# Altium schematic symbol library general.SchLib: 62 symbols
Pins are listed as number, name and electrical type; pins without a type are passive.

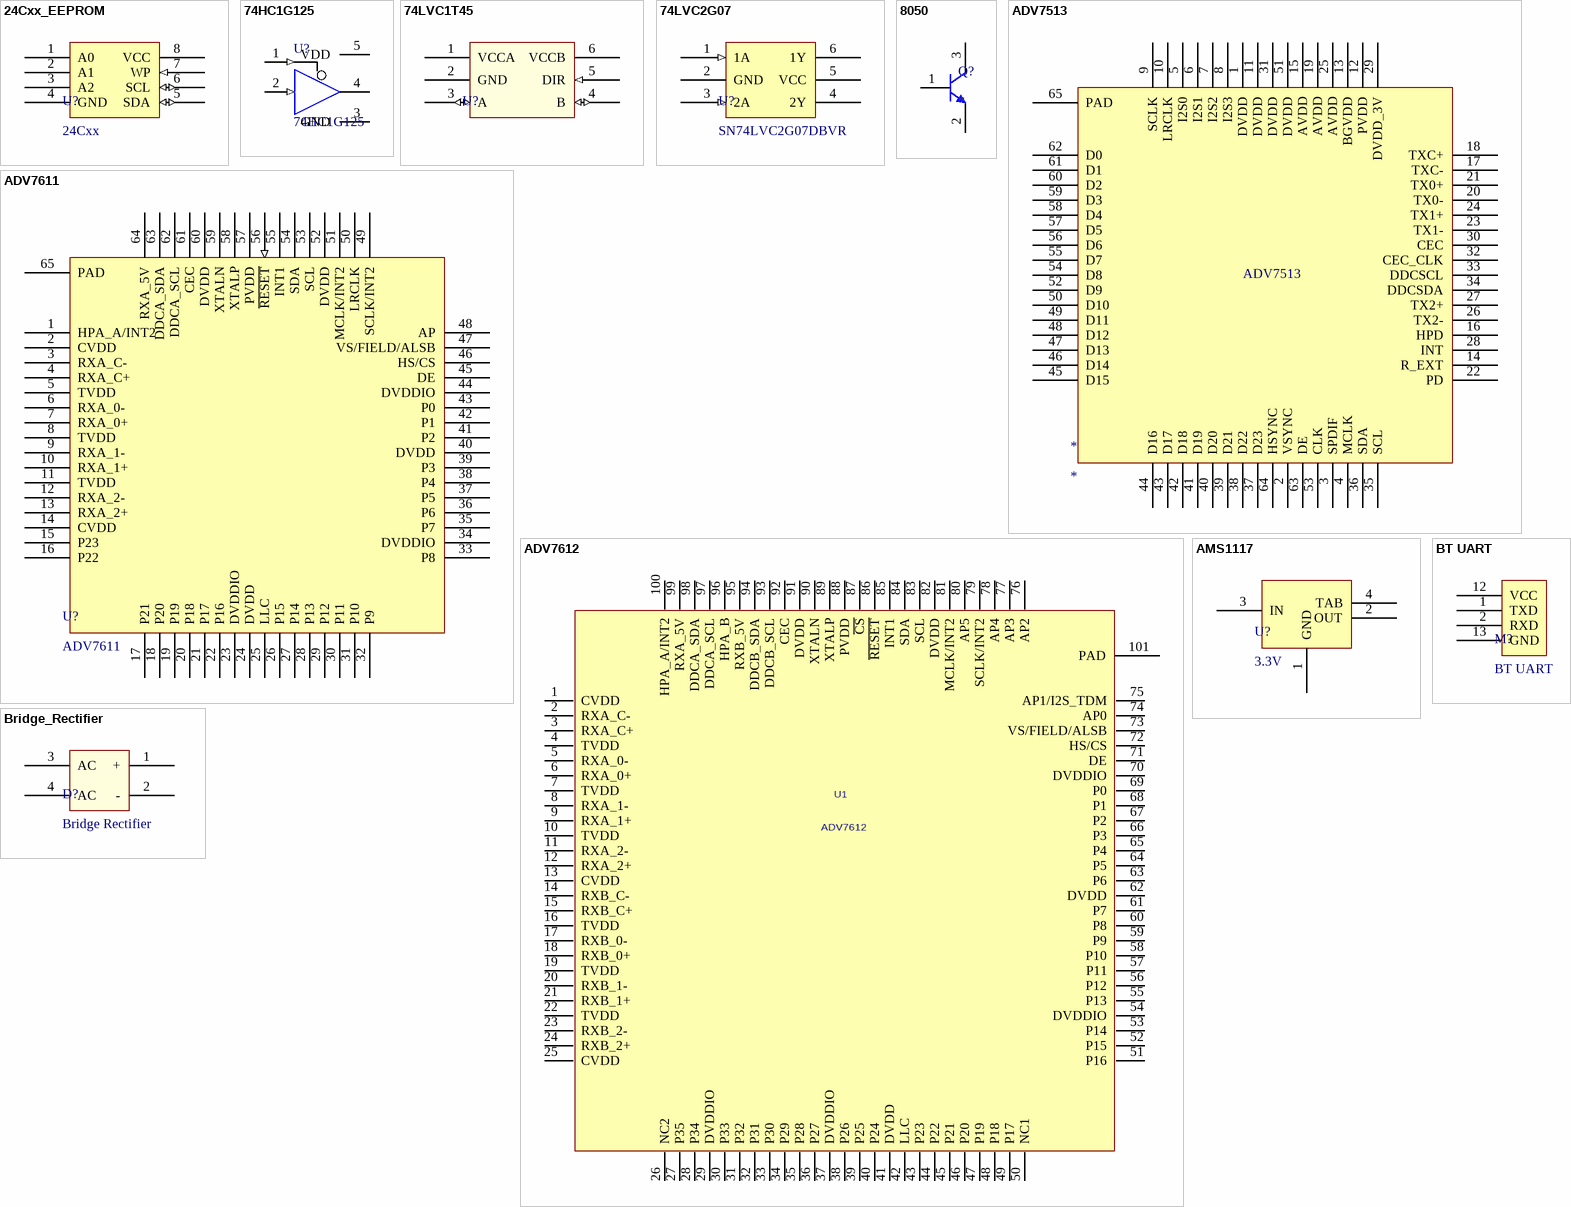
[diagram p0: symbols 24Cxx_EEPROM to BT UART]

## 24Cxx_EEPROM
designator U?, comment 24Cxx
footprint SOP8-3D (Small Outline; 8 Leads; Body Width 4.3 mm; Pitch 1.27 mm)
pins: 1 A0, 2 A1, 3 A2, 4 GND (power), 5 SDA (io), 6 SCL (io), 7 WP (in), 8 VCC (power)

## 74HC1G125
designator U?
Non-Inverting 3-State Buffer; Published: 15-Apr-2002; LatestRevisionDate: 12-Dec-2006; LatestRevisionNote: IPC-7351 Footprint Added.; DatasheetVersion: Feb-2000; PackageVersion: Oct-1999; PackageReference: 419A-01; Publisher: Altium Limited; PackageDescription: 5-Pin SOT-353 Package 0.65 mm Pitch, 2.1 mm Lead Span; ComponentLink1Description: Manufacturer Link; ComponentLink1URL: http://www.onsemi.com/; ComponentLink2Description: Datasheet; ComponentLink2URL: http://www.onsemi.com/pub/Collateral/MC74VHC1G125-D.PDF
footprint SOT23-5
footprint 419A-01_L (SOT353, 5-Leads, Body 2x1.3mm, Pitch 0.65mm, Lead Span 2.1mm, IPC High Density)
footprint 419A-01_M (SOT353, 5-Leads, Body 2x1.3mm, Pitch 0.65mm, Lead Span 2.1mm, IPC Low Density)
pins: 1 ~{OE} (in), 2 A (in), 3 GND (power), 4 Y (hiz), 5 VDD (power)

## 74LVC1T45
designator U?
footprint SOT23-6
pins: 1 VCCA (power), 2 GND (power), 3 A (io), 4 B (io), 5 DIR (in), 6 VCCB (power)

## 74LVC2G07
designator U?, comment SN74LVC2G07DBVR
footprint SOT23-6
pins: 1 1A (in), 2 GND (power), 3 2A (in), 4 2Y (oc), 5 VCC (power), 6 1Y (oc)

## 8050
designator Q?
footprint SOT23B (SOT-23; 3 Leads; Body 3.0 x 2.6 mm, inc. leads (LxW max))
pins: 1 B, 2 E, 3 C

## ADV7513
designator *
pins: 1 DVDD, 2 VSYNC, 3 SPDIF, 4 MCLK, 5 I2S0, 6 I2S1, 7 I2S2, 8 I2S3, 9 SCLK, 10 LRCLK, 11 DVDD, 12 PVDD, 13 BGVDD, 14 R_EXT, 15 AVDD, 16 HPD, 17 TXC-, 18 TXC+, 19 AVDD, 20 TX0-, 21 TX0+, 22 PD, 23 TX1-, 24 TX1+, 25 AVDD, 26 TX2-, 27 TX2+, 28 INT, 29 DVDD_3V, 30 CEC, 31 DVDD, 32 CEC_CLK, 33 DDCSCL, 34 DDCSDA, 35 SCL, 36 SDA, 37 D23, 38 D22, 39 D21, 40 D20, 41 D19, 42 D18, 43 D17, 44 D16, 45 D15, 46 D14, 47 D13, 48 D12, 49 D11, 50 D10, 51 DVDD, 52 D9, 53 CLK, 54 D8, 55 D7, 56 D6, 57 D5, 58 D4, 59 D3, 60 D2, 61 D1, 62 D0, 63 DE, 64 HSYNC, 65 PAD

## ADV7611
designator U?
footprint ADV7611
pins: 1 HPA_A/INT2, 2 CVDD, 3 RXA_C-, 4 RXA_C+, 5 TVDD, 6 RXA_0-, 7 RXA_0+, 8 TVDD, 9 RXA_1-, 10 RXA_1+, 11 TVDD, 12 RXA_2-, 13 RXA_2+, 14 CVDD, 15 P23, 16 P22, 17 P21, 18 P20, 19 P19, 20 P18, 21 P17, 22 P16, 23 DVDDIO, 24 DVDD, 25 LLC, 26 P15, 27 P14, 28 P13, 29 P12, 30 P11, 31 P10, 32 P9, 33 P8, 34 DVDDIO, 35 P7, 36 P6, 37 P5, 38 P4, 39 P3, 40 DVDD, 41 P2, 42 P1, 43 P0, 44 DVDDIO, 45 DE, 46 HS/CS, 47 VS/FIELD/ALSB, 48 AP, 49 SCLK/INT2, 50 LRCLK, 51 MCLK/INT2, 52 DVDD, 53 SCL, 54 SDA, 55 INT1, 56 ~{RESET} (in), 57 PVDD, 58 XTALP, 59 XTALN, 60 DVDD, 61 CEC, 62 DDCA_SCL, 63 DDCA_SDA, 64 RXA_5V, 65 PAD (power)

## ADV7612
designator U1
Manufacturer: ANALOG DEVICES; Manufacturers P/N: TBA; PCB DECAL: ADV7612-CLAMP; SIGPIN101: GND; Part Desc: ADV7612; Stock Code: ADI Free Issue
footprint ADV7612-CLAMP
pins: 1 CVDD, 2 RXA_C-, 3 RXA_C+, 4 TVDD, 5 RXA_0-, 6 RXA_0+, 7 TVDD, 8 RXA_1-, 9 RXA_1+, 10 TVDD, 11 RXA_2-, 12 RXA_2+, 13 CVDD, 14 RXB_C-, 15 RXB_C+, 16 TVDD, 17 RXB_0-, 18 RXB_0+, 19 TVDD, 20 RXB_1-, 21 RXB_1+, 22 TVDD, 23 RXB_2-, 24 RXB_2+, 25 CVDD, 26 NC2, 27 P35, 28 P34, 29 DVDDIO, 30 P33, 31 P32, 32 P31, 33 P30, 34 P29, 35 P28, 36 P27, 37 DVDDIO, 38 P26, 39 P25, 40 P24, 41 DVDD, 42 LLC, 43 P23, 44 P22, 45 P21, 46 P20, 47 P19, 48 P18, 49 P17, 50 NC1, 51 P16, 52 P15, 53 P14, 54 DVDDIO, 55 P13, 56 P12, 57 P11, 58 P10, 59 P9, 60 P8, 61 P7, 62 DVDD, 63 P6, 64 P5, 65 P4, 66 P3, 67 P2, 68 P1, 69 P0, 70 DVDDIO, 71 DE, 72 HS/CS, 73 VS/FIELD/ALSB, 74 AP0, 75 AP1/I2S_TDM, 76 AP2, 77 AP3, 78 AP4, 79 SCLK/INT2, 80 AP5, 81 MCLK/INT2, 82 DVDD, 83 SCL, 84 SDA, 85 INT1, 86 ~{RESET}, 87 ~{CS}, 88 PVDD, 89 XTALP, 90 XTALN, 91 DVDD, 92 CEC, 93 DDCB_SCL, 94 DDCB_SDA, 95 RXB_5V, 96 HPA_B, 97 DDCA_SCL, 98 DDCA_SDA, 99 RXA_5V, 100 HPA_A/INT2, 101 PAD

## AMS1117
designator U?, comment 3.3V
footprint SOT223-3D (SOT-223/SC-73; 4 Leads; Body 6.7 x 7.3 mm, inc. leads (LxW max))
pins: 1 GND, 2 OUT, 3 IN, 4 TAB

## Bridge_Rectifier
designator D?, comment Bridge Rectifier
footprint DB151S (SOP, 4-Leads, Body 8.30x6.35mm, Pitch 5.10mm, IPC Medium Density)
pins: 1 +, 2 -, 3 AC, 4 AC

## BT UART
designator M?
pins: 1 TXD, 2 RXD, 12 VCC (power), 13 GND

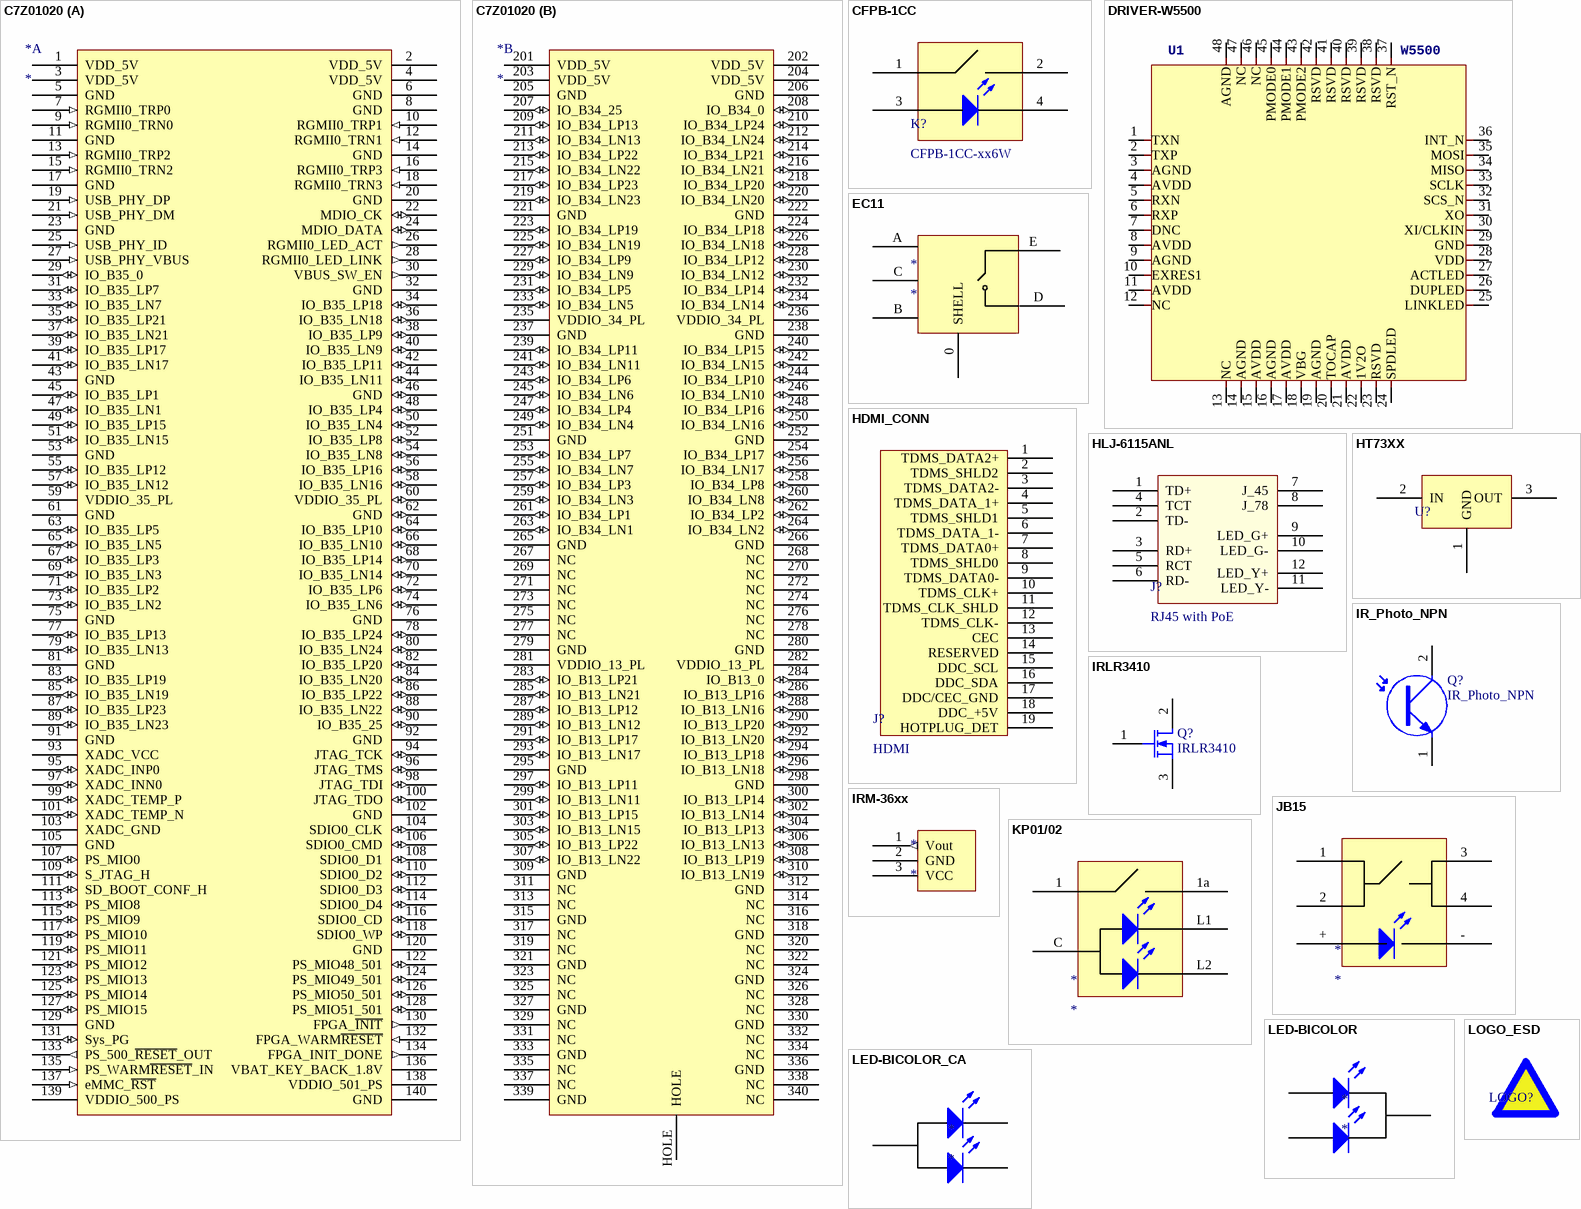
[diagram p1: symbols C7Z01020 to LOGO_ESD]

## C7Z01020
designator *
footprint C7Z01020
part A pins: 1 VDD_5V (power), 2 VDD_5V (power), 3 VDD_5V (power), 4 VDD_5V (power), 5 GND (power), 6 GND (power), 7 RGMII0_TRP0 (in), 8 GND (power), 9 RGMII0_TRN0 (in), 10 RGMII0_TRP1 (in), 11 GND (power), 12 RGMII0_TRN1 (in), 13 RGMII0_TRP2 (in), 14 GND (power), 15 RGMII0_TRN2 (in), 16 RGMII0_TRP3 (in), 17 GND (power), 18 RGMII0_TRN3 (in), 19 USB_PHY_DP (in), 20 GND (power), 21 USB_PHY_DM (in), 22 MDIO_CK (io), 23 GND (power), 24 MDIO_DATA (io), 25 USB_PHY_ID (in), 26 RGMII0_LED_ACT (out), 27 USB_PHY_VBUS (in), 28 RGMII0_LED_LINK (out), 29 IO_B35_0 (io), 30 VBUS_SW_EN (out), 31 IO_B35_LP7 (io), 32 GND (power), 33 IO_B35_LN7 (io), 34 IO_B35_LP18 (io), 35 IO_B35_LP21 (io), 36 IO_B35_LN18 (io), 37 IO_B35_LN21 (io), 38 IO_B35_LP9 (io), 39 IO_B35_LP17 (io), 40 IO_B35_LN9 (io), 41 IO_B35_LN17 (io), 42 IO_B35_LP11 (io), 43 GND (power), 44 IO_B35_LN11 (io), 45 IO_B35_LP1 (io), 46 GND (io), 47 IO_B35_LN1 (io), 48 IO_B35_LP4 (io), 49 IO_B35_LP15 (io), 50 IO_B35_LN4 (io), 51 IO_B35_LN15 (io), 52 IO_B35_LP8 (io), 53 GND (power), 54 IO_B35_LN8 (io), 55 IO_B35_LP12 (io), 56 IO_B35_LP16 (io), 57 IO_B35_LN12 (io), 58 IO_B35_LN16 (io), 59 VDDIO_35_PL (power), 60 VDDIO_35_PL (io), 61 GND (power), 62 GND (io), 63 IO_B35_LP5 (io), 64 IO_B35_LP10 (io), 65 IO_B35_LN5 (io), 66 IO_B35_LN10 (io), 67 IO_B35_LP3 (io), 68 IO_B35_LP14 (io), 69 IO_B35_LN3 (io), 70 IO_B35_LN14 (io), 71 IO_B35_LP2 (io), 72 IO_B35_LP6 (io), 73 IO_B35_LN2 (io), 74 IO_B35_LN6 (io), 75 GND (power), 76 GND (power), 77 IO_B35_LP13 (io), 78 IO_B35_LP24 (io), 79 IO_B35_LN13 (io), 80 IO_B35_LN24 (io), 81 GND (power), 82 IO_B35_LP20 (io), 83 IO_B35_LP19 (io), 84 IO_B35_LN20 (io), 85 IO_B35_LN19 (io), 86 IO_B35_LP22 (io), 87 IO_B35_LP23 (io), 88 IO_B35_LN22 (io), 89 IO_B35_LN23 (io), 90 IO_B35_25 (io), 91 GND (power), 92 GND (power), 93 XADC_VCC (power), 94 JTAG_TCK (io), 95 XADC_INP0 (io), 96 JTAG_TMS (io), 97 XADC_INN0 (io), 98 JTAG_TDI (io), 99 XADC_TEMP_P (io), 100 JTAG_TDO (io), 101 XADC_TEMP_N (io), 102 GND (power), 103 XADC_GND (power), 104 SDIO0_CLK (io), 105 GND (power), 106 SDIO0_CMD (io), 107 PS_MIO0 (io), 108 SDIO0_D1 (io), 109 S_JTAG_H (io), 110 SDIO0_D2 (io), 111 SD_BOOT_CONF_H (io), 112 SDIO0_D3 (io), 113 PS_MIO8 (io), 114 SDIO0_D4 (io), 115 PS_MIO9 (io), 116 SDIO0_CD (io), 117 PS_MIO10 (io), 118 SDIO0_WP (io), 119 PS_MIO11 (io), 120 GND (power), 121 PS_MIO12 (io), 122 PS_MIO48_501 (io), 123 PS_MIO13 (io), 124 PS_MIO49_501 (io), 125 PS_MIO14 (io), 126 PS_MIO50_501 (io), 127 PS_MIO15 (io), 128 PS_MIO51_501 (io), 129 GND (power), 130 FPGA_~{INIT} (out), 131 Sys_PG (io), 132 FPGA_WARM~{RESET} (in), 133 PS_500_~{RESET}_OUT (out), 134 FPGA_INIT_DONE (out), 135 PS_WARM~{RESET}_IN (in), 136 VBAT_KEY_BACK_1.8V (power), 137 eMMC_~{RST} (in), 138 VDDIO_501_PS (power), 139 VDDIO_500_PS (power), 140 GND (power)
part B pins: 201 VDD_5V (power), 202 VDD_5V (power), 203 VDD_5V (power), 204 VDD_5V (power), 205 GND (power), 206 GND (power), 207 IO_B34_25 (io), 208 IO_B34_0 (io), 209 IO_B34_LP13 (io), 210 IO_B34_LP24 (io), 211 IO_B34_LN13 (io), 212 IO_B34_LN24 (io), 213 IO_B34_LP22 (io), 214 IO_B34_LP21 (io), 215 IO_B34_LN22 (io), 216 IO_B34_LN21 (io), 217 IO_B34_LP23 (io), 218 IO_B34_LP20 (io), 219 IO_B34_LN23 (io), 220 IO_B34_LN20 (io), 221 GND (power), 222 GND (power), 223 IO_B34_LP19 (io), 224 IO_B34_LP18 (io), 225 IO_B34_LN19 (io), 226 IO_B34_LN18 (io), 227 IO_B34_LP9 (io), 228 IO_B34_LP12 (io), 229 IO_B34_LN9 (io), 230 IO_B34_LN12 (io), 231 IO_B34_LP5 (io), 232 IO_B34_LP14 (io), 233 IO_B34_LN5 (io), 234 IO_B34_LN14 (io), 235 VDDIO_34_PL (power), 236 VDDIO_34_PL (power), 237 GND (power), 238 GND (power), 239 IO_B34_LP11 (io), 240 IO_B34_LP15 (io), 241 IO_B34_LN11 (io), 242 IO_B34_LN15 (io), 243 IO_B34_LP6 (io), 244 IO_B34_LP10 (io), 245 IO_B34_LN6 (io), 246 IO_B34_LN10 (io), 247 IO_B34_LP4 (io), 248 IO_B34_LP16 (io), 249 IO_B34_LN4 (io), 250 IO_B34_LN16 (io), 251 GND (power), 252 GND (power), 253 IO_B34_LP7 (io), 254 IO_B34_LP17 (io), 255 IO_B34_LN7 (io), 256 IO_B34_LN17 (io), 257 IO_B34_LP3 (io), 258 IO_B34_LP8 (io), 259 IO_B34_LN3 (io), 260 IO_B34_LN8 (io), 261 IO_B34_LP1 (io), 262 IO_B34_LP2 (io), 263 IO_B34_LN1 (io), 264 IO_B34_LN2 (io), 265 GND (power), 266 GND (power), 267 NC (power), 268 NC (power), 269 NC (power), 270 NC (power), 271 NC (power), 272 NC (power), 273 NC (power), 274 NC (power), 275 NC (power), 276 NC (power), 277 NC (power), 278 NC (power), 279 GND (power), 280 GND (power), 281 VDDIO_13_PL (power), 282 VDDIO_13_PL (power), 283 IO_B13_LP21 (io), 284 IO_B13_0 (io), 285 IO_B13_LN21 (io), 286 IO_B13_LP16 (io), 287 IO_B13_LP12 (io), 288 IO_B13_LN16 (io), 289 IO_B13_LN12 (io), 290 IO_B13_LP20 (io), 291 IO_B13_LP17 (io), 292 IO_B13_LN20 (io), 293 IO_B13_LN17 (io), 294 IO_B13_LP18 (io), 295 GND (power), 296 IO_B13_LN18 (io), 297 IO_B13_LP11 (io), 298 GND (power), 299 IO_B13_LN11 (io), 300 IO_B13_LP14 (io), 301 IO_B13_LP15 (io), 302 IO_B13_LN14 (io), 303 IO_B13_LN15 (io), 304 IO_B13_LP13 (io), 305 IO_B13_LP22 (io), 306 IO_B13_LN13 (io), 307 IO_B13_LN22 (io), 308 IO_B13_LP19 (io), 309 GND (power), 310 IO_B13_LN19 (io), 311 NC (power), 312 GND (power), 313 NC (power), 314 NC (power), 315 GND (power), 316 NC (power), 317 NC (power), 318 GND (power), 319 NC (power), 320 NC (power), 321 GND (power), 322 NC (power), 323 NC (power), 324 GND (power), 325 NC (power), 326 NC (power), 327 GND (power), 328 NC (power), 329 NC (power), 330 GND (power), 331 NC (power), 332 NC (power), 333 GND (power), 334 NC (power), 335 NC (power), 336 GND (power), 337 NC (power), 338 NC (power), 339 GND (power), 340 NC (power), HOLE (power)

## CFPB-1CC
designator K?, comment CFPB-1CC-xx6W
footprint CFPB-1CC-xx6W
pins: 1, 2, 3, 4

## DRIVER-W5500
designator U1, comment W5500
footprint TQFP48_N (48-Pin Thin Quad Flat Pack 0.5 mm Pitch, IPC Medium Density)
pins: 1 TXN, 2 TXP, 3 AGND, 4 AVDD, 5 RXN, 6 RXP, 7 DNC, 8 AVDD, 9 AGND, 10 EXRES1, 11 AVDD, 12 NC, 13 NC, 14 AGND, 15 AVDD, 16 AGND, 17 AVDD, 18 VBG, 19 AGND, 20 TOCAP, 21 AVDD, 22 1V2O, 23 RSVD, 24 SPDLED, 25 LINKLED, 26 DUPLED, 27 ACTLED, 28 VDD, 29 GND, 30 XI/CLKIN, 31 XO, 32 SCS_N, 33 SCLK, 34 MISO, 35 MOSI, 36 INT_N, 37 RST_N, 38 RSVD, 39 RSVD, 40 RSVD, 41 RSVD, 42 RSVD, 43 PMODE2, 44 PMODE1, 45 PMODE0, 46 NC, 47 NC, 48 AGND

## EC11
designator *
footprint EC11
pins: 0 SHELL, A, B, C, D, E 25

## HDMI_CONN
designator J?, comment HDMI
footprint HDMI-CON
pins: 1 TDMS_DATA2+, 2 TDMS_SHLD2, 3 TDMS_DATA2-, 4 TDMS_DATA_1+, 5 TDMS_SHLD1, 6 TDMS_DATA_1-, 7 TDMS_DATA0+, 8 TDMS_SHLD0, 9 TDMS_DATA0-, 10 TDMS_CLK+, 11 TDMS_CLK_SHLD, 12 TDMS_CLK-, 13 CEC, 14 RESERVED, 15 DDC_SCL, 16 DDC_SDA, 17 DDC/CEC_GND, 18 DDC_+5V, 19 HOTPLUG_DET

## HLJ-6115ANL
designator J?, comment RJ45 with PoE
footprint HR911105A
pins: 1 TD+, 2 TD-, 3 RD+, 4 TCT, 5 RCT, 6 RD-, 7 J_45, 8 J_78, 9 LED_G+, 10 LED_G-, 11 LED_Y-, 12 LED_Y+

## HT73XX
designator U?
Low Power Consumption LDO
footprint SOT89 (SOT89, 3-Leads, Body 4,5x2,4mm (max), Pitch 1,50mm, Lead Span 4,1mm, IPC Medium Density)
pins: 1 GND, 2 IN, 3 OUT

## IR_Photo_NPN
designator Q?
NPN Phototransistor; Published: 24-Mar-1999; LatestRevisionDate: 17-Jul-2002; LatestRevisionNote: Re-released for DXP Platform.; PackageReference: TO-220_A; Publisher: Altium Limited; Code_JEDEC: TO-220-AC
footprint PHOTO_NPN
pins: 1 E, 2 C

## IRLR3410
designator Q?
TO-252 N-Channel MOSFET; Published: 8-Jun-2000; LatestRevisionDate: 17-Jul-2002; LatestRevisionNote: Re-released for DXP Platform.; PackageVersion: 1995/1996; PackageReference: E3; Publisher: Altium Limited
simulation model NMOS (MOSFET-N)
footprint TO-252 (D-PAK, 3-Pads, Body 6.20x6.71mm (max), IPC Medium Density)
pins: 1 G, 2 D, 3 S

## IRM-36xx
designator *
footprint IRM-36xx
pins: 1 Vout (out), 2 GND (power), 3 VCC (power)

## JB15
designator *
footprint JB15
pins: 1, 2, 3, 4, +, -

## KP01/02
designator *
footprint KP01/02
pins: 1, 1a, C, L1, L2

## LED-BICOLOR
designator *
footprint LED-BICOLOR
pins: 1, 2, 3

## LED-BICOLOR_CA
designator *
footprint LED-BICOLOR
pins: 1, 2, 3

## LOGO_ESD
designator LOGO?  (value not drawn)
footprint LOGO_WARING1

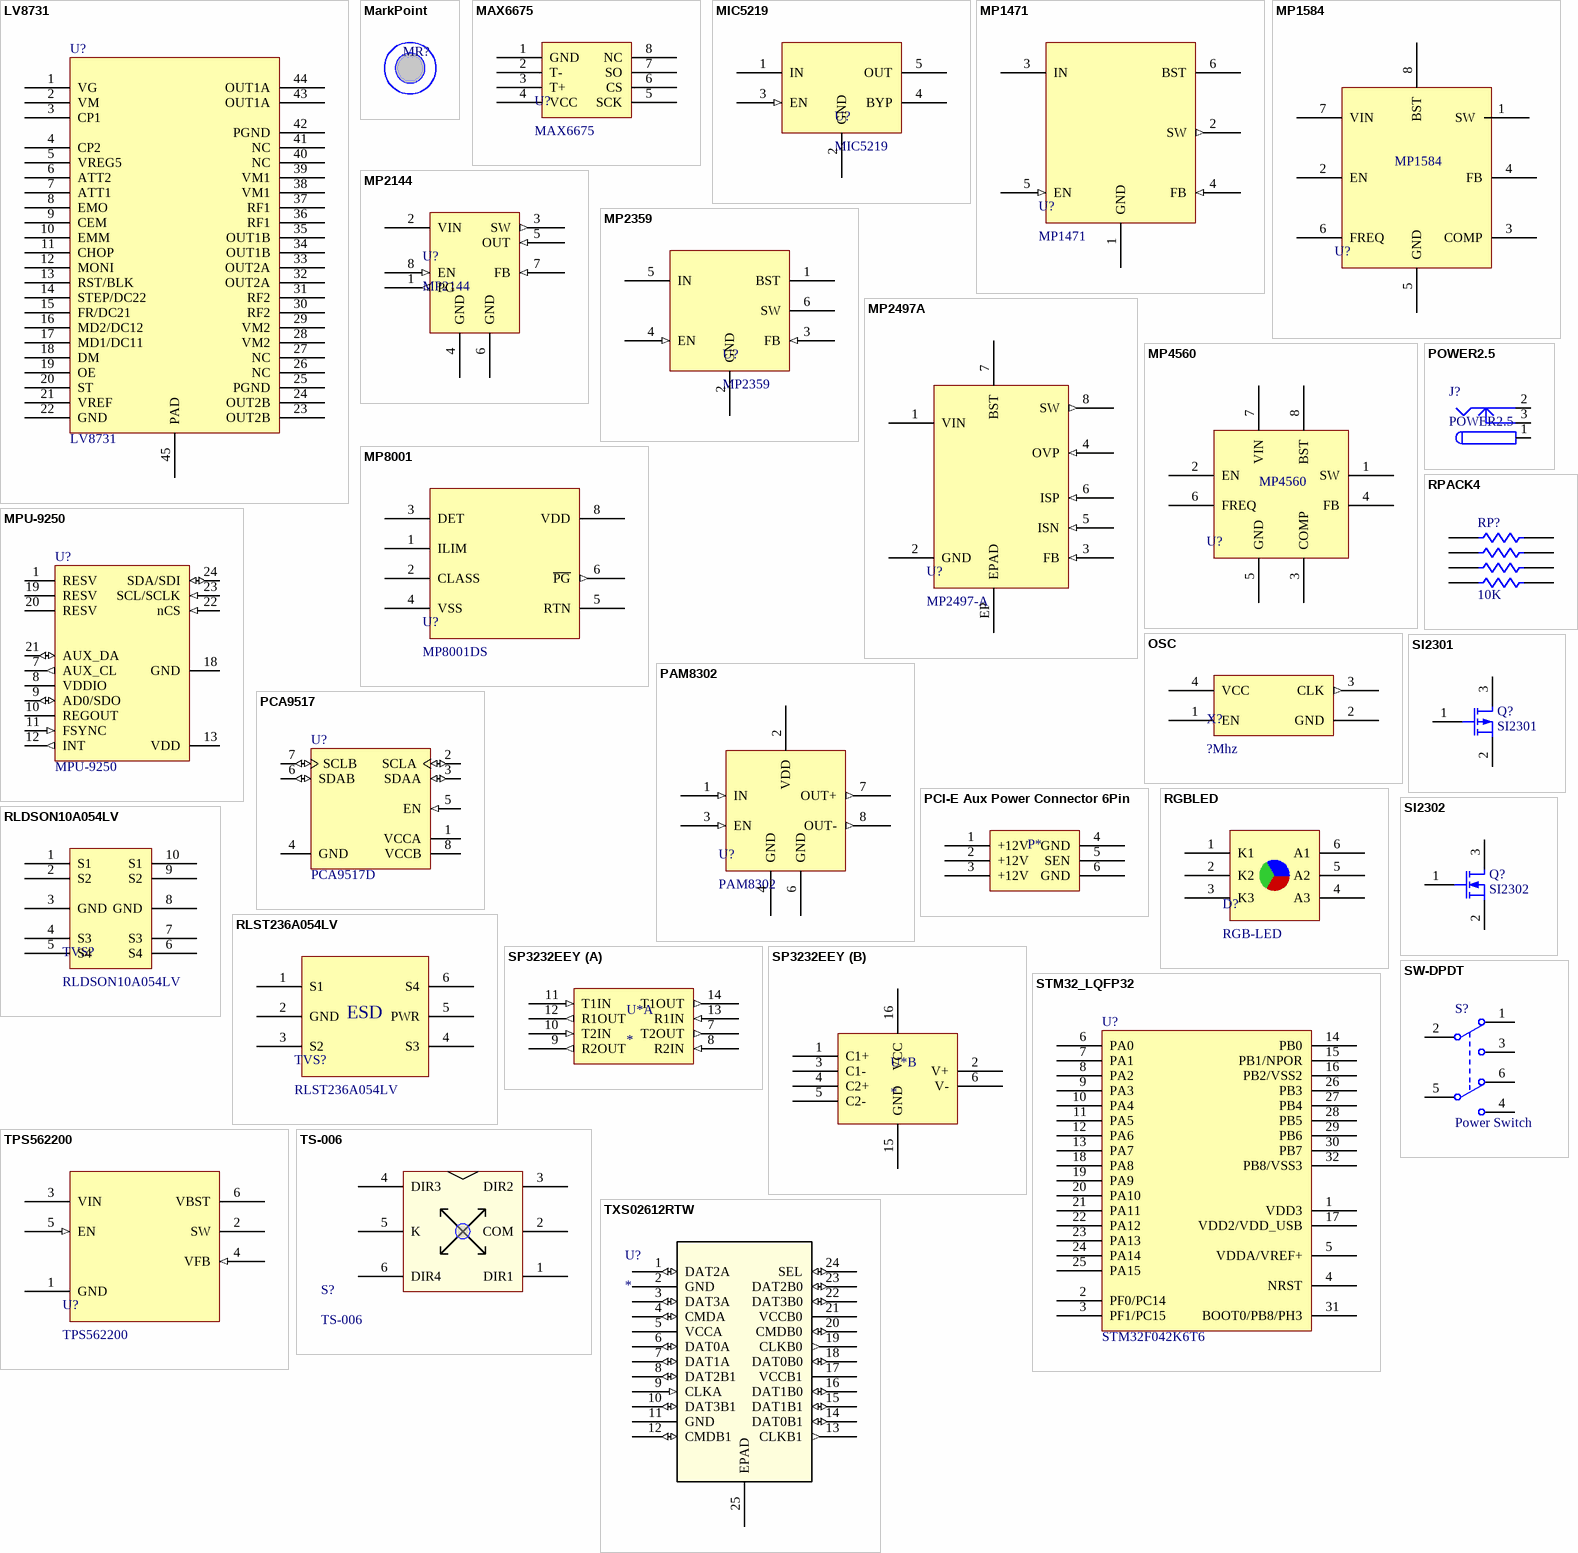
[diagram p2: symbols LV8731 to TXS02612RTW]

## LV8731
designator U?
footprint SSOP44K (SOP, 44-Leads, Body 15.0x5.6mm (max), Pitch 0.65mm, IPC Low Density)
pins: 1 VG, 2 VM, 3 CP1, 4 CP2, 5 VREG5, 6 ATT2, 7 ATT1, 8 EMO, 9 CEM, 10 EMM, 11 CHOP, 12 MONI, 13 RST/BLK, 14 STEP/DC22, 15 FR/DC21, 16 MD2/DC12, 17 MD1/DC11, 18 DM, 19 OE, 20 ST, 21 VREF, 22 GND, 23 OUT2B, 24 OUT2B, 25 PGND, 26 NC, 27 NC, 28 VM2, 29 VM2, 30 RF2, 31 RF2, 32 OUT2A, 33 OUT2A, 34 OUT1B, 35 OUT1B, 36 RF1, 37 RF1, 38 VM1, 39 VM1, 40 NC, 41 NC, 42 PGND, 43 OUT1A, 44 OUT1A, 45 PAD

## MarkPoint
designator MR?  (value not drawn)
footprint MarkPoint

## MAX6675
designator U?
footprint SO8 (Small Outline; 8 Leads; Body Width 3.9 mm; Pitch 1.27 mm)
pins: 1 GND, 2 T-, 3 T+, 4 VCC, 5 SCK, 6 CS, 7 SO, 8 NC

## MIC5219
designator U?
500mA-Peak Output LDO Regulator
footprint SOT23-5
pins: 1 IN (power), 2 GND, 3 EN (in), 4 BYP, 5 OUT

## MP1471
designator U?
3A Peak,  16V, 500kHz Synchronous,  Step-Down Converter In a 6-Pin TSOT 23
footprint SOT23-6
pins: 1 GND (power), 2 SW (out), 3 IN (power), 4 FB (in), 5 EN (in), 6 BST

## MP1584
designator U?  (value not drawn)
footprint MP1584 (SOIC, 8-Leads, Body 4.9x3.9mm (max), Pitch 1.27mm, IPC Medium Density)
pins: 1 SW, 2 EN, 3 COMP, 4 FB, 5 GND, 6 FREQ, 7 VIN, 8 BST

## MP2144
designator U?
2A, 5.5V, 1.2MHz, 40μA IQ, COT Synchronous Step Down Switcher
pins: 1 PG (out), 2 VIN (power), 3 SW (out), 4 GND (power), 5 OUT (in), 6 GND (power), 7 FB (in), 8 EN (in)

## MP2359
designator U?
1.2A, 24V, 1.4MHz  Step-Down Converter
footprint SOT23-6
pins: 1 BST, 2 GND, 3 FB (in), 4 EN (in), 5 IN (power), 6 SW (power)

## MP2497A
designator U?, comment MP2497-A
3A, 50V, 100kHz Step-Down Converter
footprint SOP8-EP (SOIC, 8-Leads, Body 4.9x3.9mm (max), Pitch 1.27mm, IPC Medium Density)
pins: 1 VIN (power), 2 GND (power), 3 FB (in), 4 OVP (in), 5 ISN (in), 6 ISP (in), 7 BST, 8 SW (out), EP EPAD

## MP4560
designator U?  (value not drawn)
2A, 2MHz, 55V Step-Down Converter
footprint MP1584 (SOIC, 8-Leads, Body 4.9x3.9mm (max), Pitch 1.27mm, IPC Medium Density)
pins: 1 SW, 2 EN, 3 COMP, 4 FB, 5 GND, 6 FREQ, 7 VIN, 8 BST

## MP8001
designator U?, comment MP8001DS
footprint SOIC_E150_8
pins: 1 ILIM, 2 CLASS, 3 DET, 4 VSS, 5 RTN, 6 ~{PG} (out), 8 VDD (power)

## MPU-9250
designator U?
Integrated 6-axis MotionTracking device
footprint MPU9250 (QFN, 24-Leads, Body 3.00x3.00mm, Pitch 0.40mm, Thermal Pad 1.50x1.70mm, IPC Medium Density)
pins: 1 RESV "￼Reserved. Connect to VDDIO.", 7 AUX_CL (out) "Auxiliary  I  2  C Master serial clock", 8 VDDIO (power) "Digital I/O supply voltage", 9 AD0/SDO (io) "I2C Slave Address LSB (AD0);SPI serial data output (SDO)", 10 REGOUT "Regulator filter capacitor connection", 11 FSYNC (in) "Frame synchronization digital input. Connect to GND if unused.", 12 INT (out) "Frame synchroniInterrupt digital output (totem pole or open-drain)", 13 VDD (power) "Power supply voltage and Digital I/O supply voltage", 18 GND (power) "Power supply ground", 19 RESV "Reserved. Do not connect.", 20 RESV "￼Reserved. Connect to GND.", 21 AUX_DA (io) "I C ma s t e r s e r i a l d a t a , f o r c o n n e c t i n g t o e x t e r n a l s e n s o r s", 22 nCS (in) "Chip select (SPI mode only)", 23 SCL/SCLK (in) "I2C serial clock (SCL);SPI serial clock (SCLK)", 24 SDA/SDI (io) "I2C serial data (SDA);SPI serial data input (SDI)"

## OSC
designator X?, comment ?Mhz
footprint 12SMXB-14SMX (Quartz Crystal, SM; Body 7.5 x 5.1 mm (LxW max))
pins: 1 EN, 2 GND, 3 CLK (out), 4 VCC (power)

## PAM8302
designator U?
footprint SO8 (Small Outline; 8 Leads; Body Width 3.9 mm; Pitch 1.27 mm)
pins: 1 IN (in), 2 VDD (power), 3 EN (in), 4 GND (power), 6 GND (power), 7 OUT+ (out), 8 OUT- (out)

## PCA9517
designator U?, comment PCA9517D
footprint SOP8-3D (Small Outline; 8 Leads; Body Width 4.3 mm; Pitch 1.27 mm)
pins: 1 VCCA (power) "A-side supplyVoltage (0.9V to 5.5V)", 2 SCLA (io) "Serial clock bus, A side. Connect to VCCA  through a pullup resistor.", 3 SDAA (io) "Serial data bus, A side. Connect to VCCA  through a pullup resistor.", 4 GND (power) "Supply ground", 5 EN (in) "Active-high repeater enable input", 6 SDAB (io) "Serial data bus, B side. Connect toVCBB   through a pullup resistor.", 7 SCLB (io) "Serial clock bus, B side. Connect to VCCB through a pullup resistor.", 8 VCCB (power) "B-side and device supplyVoltage (2.7V to 5.5V)"

## PCI-E Aux Power Connector 6Pin
designator P*  (value not drawn)
footprint PCIE_AUX_PWR_CONN_6P
pins: 1 +12V (power), 2 +12V (power), 3 +12V (power), 4 GND (power), 5 SEN (power), 6 GND (power)

## POWER2.5
designator J?
footprint DC_POWER
pins: 1, 2, 3

## RGBLED
designator D?, comment RGB-LED
footprint LED-5050-6
pins: 1 K1, 2 K2, 3 K3 (power), 4 A3, 5 A2, 6 A1

## RLDSON10A054LV
designator TVS?
footprint DSON10
pins: 1 S1, 2 S2, 3 GND, 4 S3, 5 S4, 6 S4, 7 S3, 8 GND, 9 S2, 10 S1

## RLST236A054LV
designator TVS?
footprint SOT23-6
pins: 1 S1, 2 GND, 3 S2, 4 S3, 5 PWR, 6 S4
text: ESD

## RPACK4
designator RP?, comment 10K
footprint 0805-4
footprint R0603x4 (Chip Resistor Array, (0603x4); SM; 8 Leads; Body 3.40 x 1.80 mm (LxW max))
footprint EXB28V (Chip Resistor Array, (0402x4); SM; 8 Leads; Body 2.10 x 1.10 mm (LxW max))
footprint EXBS8V (Chip Resistor Array, (0805x4); SM; 8 Leads; Body 5.28 x 2.40 mm (LxW max))
pins: 1, 2, 3, 4, 5, 6, 7, 8

## SI2301
designator Q?
P-Channel MOSFET; Published: 8-Jun-2000; LatestRevisionDate: 17-Jul-2002; LatestRevisionNote: Re-released for DXP Platform.; PackageVersion: 1995/1996; PackageReference: E3; Publisher: Altium Limited
simulation model NMOS (MOSFET-N)
footprint SOT23B (SOT-23; 3 Leads; Body 3.0 x 2.6 mm, inc. leads (LxW max))
pins: 1 G, 2 S, 3 D

## SI2302
designator Q?
N-Channel MOSFET; Published: 8-Jun-2000; LatestRevisionDate: 17-Jul-2002; LatestRevisionNote: Re-released for DXP Platform.; PackageVersion: 1995/1996; PackageReference: E3; Publisher: Altium Limited
simulation model NMOS (MOSFET-N)
footprint SOT23B (SOT-23; 3 Leads; Body 3.0 x 2.6 mm, inc. leads (LxW max))
pins: 1 G, 2 S, 3 D

## SP3232EEY
designator U*
footprint LC-TSSOP-16
part A pins: 7 T2OUT (out), 8 R2IN (in), 9 R2OUT (out), 10 T2IN (in), 11 T1IN (in), 12 R1OUT (out), 13 R1IN (in), 14 T1OUT (out)
part B pins: 1 C1+ (power), 2 V+ (power), 3 C1- (power), 4 C2+ (power), 5 C2- (power), 6 V- (power), 15 GND (power), 16 VCC (power)

## STM32_LQFP32
designator U?, comment STM32F042K6T6
footprint LQFP32 (Footprint not found)
footprint ST_LQFP_32_V (LQFP32 Recommended ,32 Pin MCU Size,7x7mm, Pitch, 0.8mm)
footprint LQFP32_0R5_7x7 (LQFP32 Recommended ,32 Pin MCU Size,7x7mm, Pitch, 0.8mm)
pins: 1 VDD3, 2 PF0/PC14, 3 PF1/PC15, 4 NRST, 5 VDDA/VREF+, 6 PA0, 7 PA1, 8 PA2, 9 PA3, 10 PA4, 11 PA5, 12 PA6, 13 PA7, 14 PB0, 15 PB1/NPOR, 16 PB2/VSS2, 17 VDD2/VDD_USB, 18 PA8, 19 PA9, 20 PA10, 21 PA11, 22 PA12, 23 PA13, 24 PA14, 25 PA15, 26 PB3, 27 PB4, 28 PB5, 29 PB6, 30 PB7, 31 BOOT0/PB8/PH3, 32 PB8/VSS3

## SW-DPDT
designator S?, comment Power Switch
Switch; Published: 24-Mar-1999; LatestRevisionDate: 17-Jul-2002; LatestRevisionNote: Re-released for DXP Platform.; PackageReference: SOT23-6; Publisher: Altium Limited
footprint SW-DPDT
pins: 1 NC1, 2 COMMON1, 3 NO1, 4 NO2, 5 COMMON2, 6 NC2

## TPS562200
designator U?
TPS56x200 4.5-V To 17-V Input, 2-A, 3-A Synchronous Step-Down Voltage Regulator
footprint SOT23-6
pins: 1 GND (power), 2 SW, 3 VIN (power), 4 VFB (in), 5 EN (in), 6 VBST

## TS-006
designator S?
footprint TS-006
pins: 1 DIR1, 2 COM, 3 DIR2, 4 DIR3, 5 K, 6 DIR4

## TXS02612RTW
designator U?
Imported; Manufacturer_Part_Number: txs02612_rtw_24; GENERIC_PART_NUMBER: TXS02612; Vendor: Texas Instruments; PACKAGE_DESIGNATOR: RTW; PIN_COUNT: 24; FAMILY_NAME: APPLICATION SPECIFIC (COMPACT FLASH, SD, MMC, I2C); INDUSTRY_STD_PKG_TYPE: QFN; Datasheet URL: http://www.ti.com/lit/gpn/TXS02612; Manufacturer: Texas Instruments; RefDes: RefDes; Type: DEV; Value: Value
footprint QFN50P400X400X75_HS-25N (QFN, 24-Leads, Body 4.00x4.00mm, Pitch 0.50mm, Thermal Pad 2.50x2.50mm, IPC Medium Density)
pins: 1 DAT2A (io), 2 GND (power), 3 DAT3A (io), 4 CMDA (io), 5 VCCA (power), 6 DAT0A (io), 7 DAT1A (io), 8 DAT2B1 (io), 9 CLKA (in), 10 DAT3B1 (io), 11 GND (power), 12 CMDB1 (io), 13 CLKB1 (out), 14 DAT0B1 (io), 15 DAT1B1 (io), 16 DAT1B0 (io), 17 VCCB1 (power), 18 DAT0B0 (io), 19 CLKB0 (out), 20 CMDB0 (io), 21 VCCB0 (power), 22 DAT3B0 (io), 23 DAT2B0 (io), 24 SEL (io), 25 EPAD

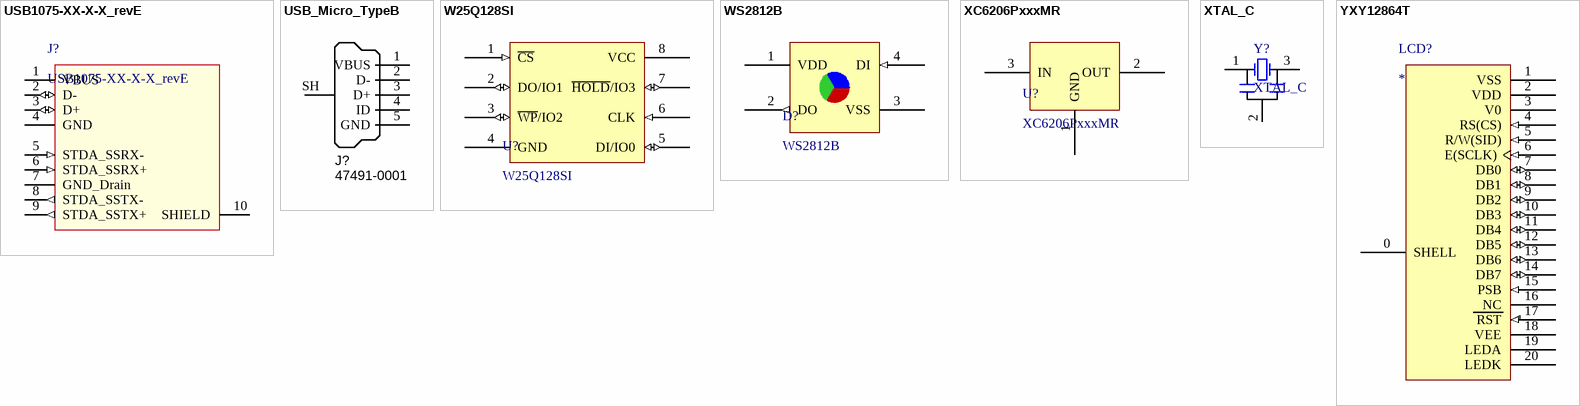
[diagram p3: symbols USB1075-XX-X-X_revE to YXY12864T]

## USB1075-XX-X-X_revE
designator J?
USB 3.0 Receptecal, Type A, 9 Pin, Through Hole, Horizontal, Top Mount, with Kinked Shell Stakes
footprint USB1075-XX-X-X_revE (USB 3.0 Receptecal, Type A, 9 Pin, Through Hole, Horizontal, Top Mount, SMT, with Kinked Shell Stakes)
pins: 1 VBUS (power), 2 D- (io), 3 D+ (io), 4 GND (power), 5 STDA_SSRX- (in), 6 STDA_SSRX+ (in), 7 GND_Drain (power), 8 STDA_SSTX- (out), 9 STDA_SSTX+ (out), 10 SHIELD

## USB_Micro_TypeB
designator J?, comment Manufacturer Part Number 1: 47491-0001  (hidden comment: USB Micro Type B)
Connector SMD USB Micro Type B middle mount; Manufacturer 1: Molex Inc; SCDType: undef; Package / Case: SMD; Supplier 1: Digi-Key; Supplier Part Number 1: WM17142CT-ND
footprint MICRO USB 3D
pins: 1 VBUS, 2 D-, 3 D+, 4 ID, 5 GND, SH Shell

## W25Q128SI
designator U?
footprint SOIC-8 Wide (SOIC, 8-Leads, Body 5.28x5.28mm, Pitch 1.27mm, IPC Medium Density)
pins: 1 ~{CS} (in), 2 DO/IO1 (io), 3 ~{WP}/IO2 (io), 4 GND (power), 5 DI/IO0 (io), 6 CLK (in), 7 ~{HOLD}/IO3 (io), 8 VCC (power)

## WS2812B
designator D?
footprint LED-5050-4
pins: 1 VDD (power), 2 DO (out), 3 VSS (power), 4 DI (in)

## XC6206PxxxMR
designator U?
footprint SOT23B (SOT-23; 3 Leads; Body 3.0 x 2.6 mm, inc. leads (LxW max))
pins: 1 GND, 2 OUT, 3 IN (power)

## XTAL_C
designator Y?
Crystal Oscillator; Published: 8-Jun-2000; LatestRevisionDate: 17-Jul-2002; LatestRevisionNote: Re-released for DXP Platform.; PackageReference: R38; Publisher: Altium Limited
simulation model XTAL (Spice Subcircuit)
footprint Crystal_C (含电容晶振，村田 3.)
pins: 1 OSC1, 2 GND, 3 OSC2

## YXY12864T
designator LCD?
pins: 0 SHELL (power), 1 VSS (power), 2 VDD (power), 3 V0 (power), 4 RS(CS) (in), 5 R/W(SID) (in), 6 E(SCLK) (in), 7 DB0 (io), 8 DB1 (io), 9 DB2 (io), 10 DB3 (io), 11 DB4 (io), 12 DB5 (io), 13 DB6 (io), 14 DB7 (io), 15 PSB (in), 16 NC, 17 RST (in), 18 VEE (power), 19 LEDA (power), 20 LEDK (power)